# EAGLE library part ATARI-MODUL2 (library TF_Atari)
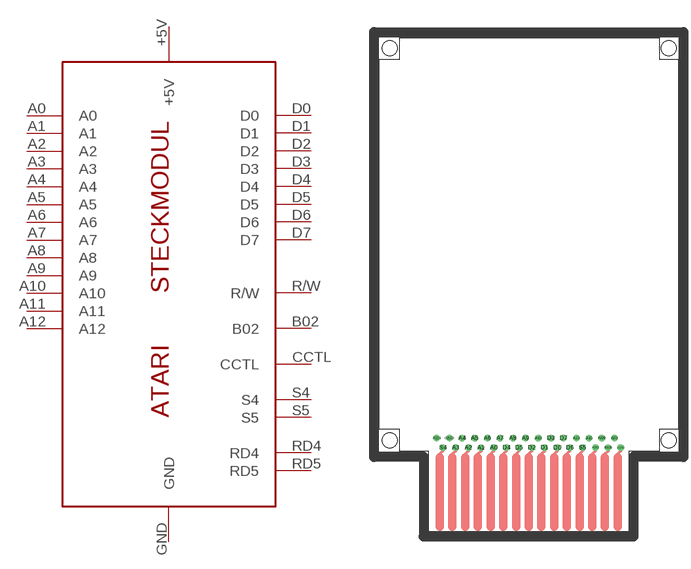
[diagram p8: symbol with the pads of ATARI-MODUL2; footprint ATARI-MODUL2]

Designator prefix -

## ATARI-MODUL2  [ATARI-MODUL2]
+5V  +5V
A0  A0
A1  A1
A2  A2
A3  A3
A4  A4
A5  A5
A6  A6
A7  A7
A8  A8
A9  A9
A10  A10
A11  A11
A12  A12
B02  B02
CCTL  CCTL
D0  D0
D1  D1
D2  D2
D3  D3
D4  D4
D5  D5
D6  D6
D7  D7
GND  GND
R/W  R/W
RD4  RD4
RD5  RD5
S4  S4
S5  S5

## Footprint ATARI-MODUL2 (pad centres in mm)
drill 0.813: +5V 14.18,-18.335; A0 -6.14,-18.335; A1 -8.68,-18.335; A2 -11.22,-18.335; A3 -13.76,-18.335; A4 -12.49,-16.43; A5 -9.95,-16.43; A6 -7.41,-16.43; A7 -4.87,-16.43; A8 -2.33,-16.43; A9 0.21,-16.43; A10 12.91,-16.43; A11 10.37,-16.43; A12 2.75,-16.43; B02 17.99,-16.43; CCTL 19.26,-18.335; D0 6.56,-18.335; D1 4.02,-18.335; D2 1.48,-18.335; D3 5.29,-16.43; D4 -3.6,-18.335; D5 -1.06,-18.335; D6 9.1,-18.335; D7 7.83,-16.43; GND -15.03,-16.43; R/W 15.45,-16.43; RD4 -17.57,-16.43; RD5 16.72,-18.335; S4 -16.3,-18.335; S5 11.64,-18.335
hole 3 at -26.988,61.595
hole 3 at 28.892,61.595
hole 3 at -26.988,-16.828
hole 3 at 28.892,-16.828